# EAGLE library part RESISTOR4 (library custom-generic)
4x Isolated Resistor Network
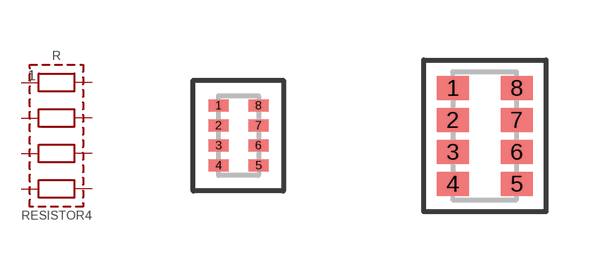
[diagram p0: symbol with the pads of EXBN8V; footprints EXBN8V, EXBV8V]

Designator prefix R

## RESISTOR4_0402X4  [EXBN8V]
1  1  pas
2  2  pas
3  3  pas
4  4  pas
5  5  pas
6  6  pas
7  7  pas
8  8  pas

## RESISTOR4_0603X4 (DIGIKEY: Y4121CT-ND)  [EXBV8V]
Pads as for EXBN8V

## Footprint EXBN8V (pad centres in mm)
smd 0.5 x 0.3: 1 -0.5,0.75; 2 -0.5,0.25; 3 -0.5,-0.25; 4 -0.5,-0.75; 5 0.5,-0.75; 6 0.5,-0.25; 7 0.5,0.25; 8 0.5,0.75

## Footprint EXBV8V (pad centres in mm)
smd 0.8 x 0.6: 1 -0.8,1.2; 2 -0.8,0.4; 3 -0.8,-0.4; 4 -0.8,-1.2; 5 0.8,-1.2; 6 0.8,-0.4; 7 0.8,0.4; 8 0.8,1.2